# Altium schematic symbol library CAP,Alum,100uF,16VDC,Radial,Thru.Schlib: 1 symbol
Pins are listed as number, name and electrical type; pins without a type are passive.

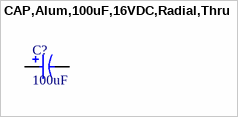
[diagram p0: symbol CAP,Alum,100uF,16VDC,Radial,Thru]

## CAP,Alum,100uF,16VDC,Radial,Thru
designator C?, comment 100uF
100µF 16V Aluminum Electrolytic Capacitors Radial, Can  3000 Hrs @ 105°C
pins: 1, 2